# Altium footprint library sm_diode.PcbLib: 24 footprints (part 2 of 2)
Each footprint in its own frame and in the unit in brackets; x right, y up, seen from the top. Pads: shape width x height; smd on the part's side, far side on the other; paste and mask are expansions set on the pad; w line width, h text height; cw(c..) or ccw(c..) is an arc to the next point about the centre after c.
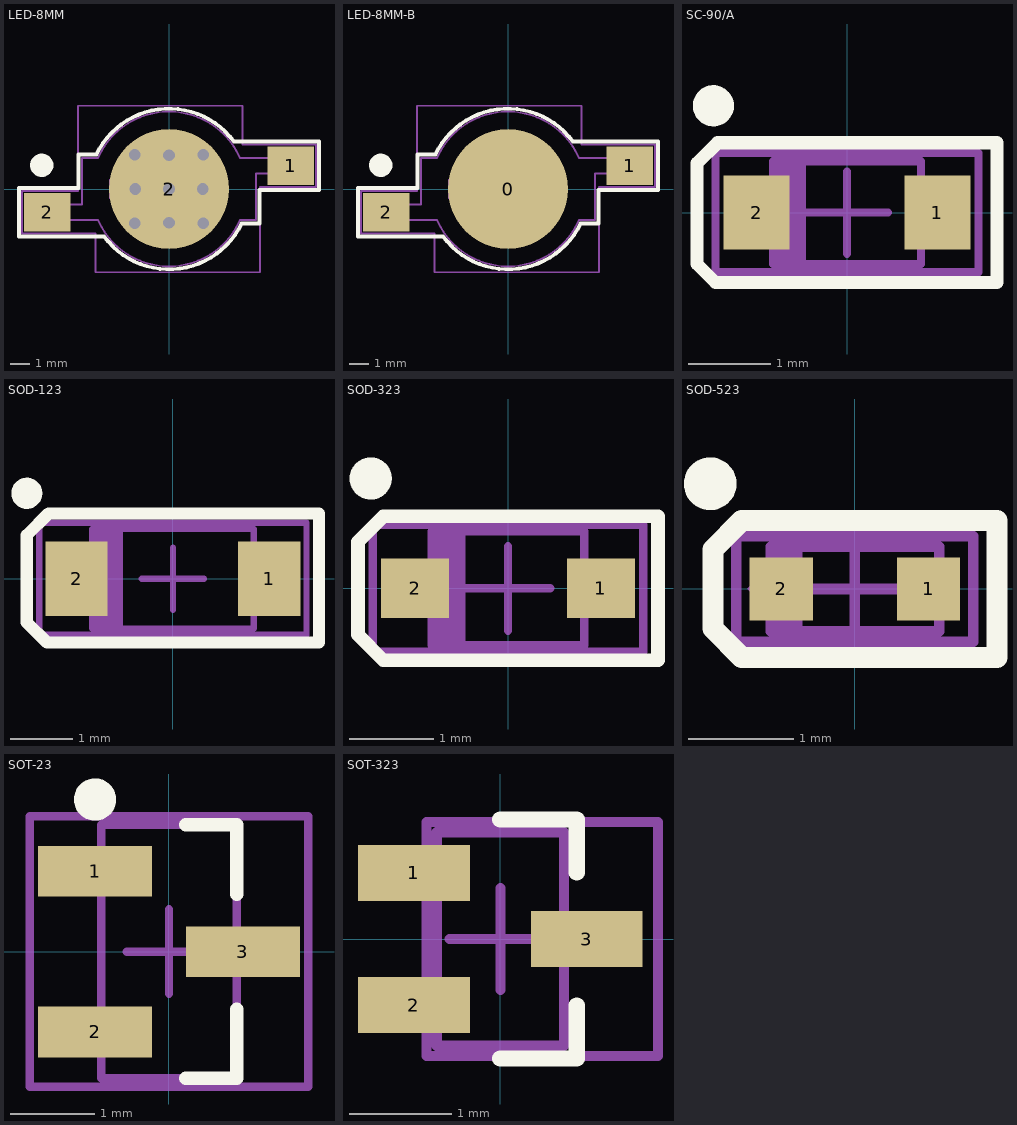
[diagram p1: the footprints below, top view; thin cyan lines are the x and y axes]

## LED-8MM [mm] "SMD LED ROUND 8MM"
height 5.3
pads (3):
  rect 2.4x2 smd: 1(6.3,1.2) 2(-6.3,-1.2)
  round 6.2 smd: 2(0,0)
via 0,0 diameter 1 hole 0.6
via 1.768,1.768 diameter 1 hole 0.6
via -1.768,1.768 diameter 1 hole 0.6
via -1.768,-1.768 diameter 1 hole 0.6
via 1.768,-1.768 diameter 1 hole 0.6
via 1.75,0 diameter 1 hole 0.6
via 0,-1.75 diameter 1 hole 0.6
via -1.75,0 diameter 1 hole 0.6
via 0,1.75 diameter 1 hole 0.6
Top Overlay:
  circle w0.6: c-6.575,1.225 r0.3
  lines w0.2: -4.675,1.775 -4.675,0.05 -7.75,0.05 -7.75,-2.45 -3.35,-2.45 ccw(c0,0) 3.751,-1.775 ; -4.65,1.775 -3.75,1.775 ; -3.751,1.775 cw(c0,0) 3.35,2.45 7.75,2.45 7.75,-0.05 4.675,-0.05 4.675,-1.775 ; 3.75,-1.775 4.65,-1.775
Mechanical 13:
  lines w0.1: -3.666,-1.6 -5.6,-1.6 -5.95,-1.95 -7.25,-1.95 -7.25,-0.45 -5.95,-0.45 -5.6,-0.8 -4.5,-0.8 -4.5,1.6 -3.666,1.6 ; -3.666,-1.599 ccw(c0,0) 3.666,-1.6 4.5,-1.6 4.5,0.8 5.6,0.8 5.95,0.45 7.25,0.45 7.25,1.95 5.95,1.95 5.6,1.6 3.666,1.6 ccw(c0,0) -3.666,1.599 ; -0.5,0 0.5,0 ; 0,-0.5 0,0.5
Mechanical 15:
  region: -2.4,-0.5 -3,-0.1 -3,-0.5 -3.1,-0.5 -3.1,0.5 -3,0.5 -3,0.1 -2.4,0.5
  lines w0.1: -7.6,-2.3 -7.6,-0.1 -4.7,-0.1 -4.7,4.3 3.8,4.3 3.8,2.3 7.6,2.3 7.6,0.1 4.7,0.1 4.7,-4.3 -3.8,-4.3 -3.8,-2.3 -7.6,-2.3
  text ".Designator" at -0.775,-0.275 h0.5
3D body "SW3dPS-LED Case Lambertian II.STEP": height 5.82, standoff 0.25, extent -7.179,-3.983 7.179,3.983

## LED-8MM-B [mm] "SMD LED ROUND 8MM SLUG INSULATED"
height 5.3
pads (3):
  round 6.2 smd: 0(0,0)
  rect 2.4x2 smd: 1(6.3,1.2) 2(-6.3,-1.2)
Top Overlay:
  circle w0.6: c-6.575,1.225 r0.3
  lines w0.2: -4.675,1.775 -4.675,0.05 -7.75,0.05 -7.75,-2.45 -3.35,-2.45 ccw(c0,0) 3.751,-1.775 ; -4.65,1.775 -3.75,1.775 ; -3.751,1.775 cw(c0,0) 3.35,2.45 7.75,2.45 7.75,-0.05 4.675,-0.05 4.675,-1.775 ; 3.75,-1.775 4.65,-1.775
Mechanical 13:
  lines w0.1: -3.666,-1.6 -5.6,-1.6 -5.95,-1.95 -7.25,-1.95 -7.25,-0.45 -5.95,-0.45 -5.6,-0.8 -4.5,-0.8 -4.5,1.6 -3.666,1.6 ; -3.666,-1.599 ccw(c0,0) 3.666,-1.6 4.5,-1.6 4.5,0.8 5.6,0.8 5.95,0.45 7.25,0.45 7.25,1.95 5.95,1.95 5.6,1.6 3.666,1.6 ccw(c0,0) -3.666,1.599 ; -0.5,0 0.5,0 ; 0,-0.5 0,0.5
Mechanical 15:
  region: -2.4,-0.5 -3,-0.1 -3,-0.5 -3.1,-0.5 -3.1,0.5 -3,0.5 -3,0.1 -2.4,0.5
  lines w0.1: -7.6,-2.3 -7.6,-0.1 -4.7,-0.1 -4.7,4.3 3.8,4.3 3.8,2.3 7.6,2.3 7.6,0.1 4.7,0.1 4.7,-4.3 -3.8,-4.3 -3.8,-2.3 -7.6,-2.3
  text ".Designator" at -0.775,-0.275 h0.5
3D body "SW3dPS-LED Case Lambertian II.STEP": height 5.82, standoff 0.25, extent -7.179,-3.983 7.179,3.983

## SC-90/A [mm] "Molded Diode, 2-Leads"
height 0.7
pads (2):
  rect 0.8x0.9 smd: 1(1.1,0) 2(-1.1,0)
Top Overlay:
  circle w0.25: c-1.625,1.3 r0.125
  lines w0.16: -1.825,-0.625 -1.6,-0.85 1.825,-0.85 1.825,0.85 -1.575,0.85 -1.825,0.6 -1.825,-0.625
Mechanical 13:
  rectangle: -0.9,-0.625 -0.5,0.625
  lines w0.1: -0.5,0 0.5,0 ; 0,-0.5 0,0.5 ; -0.9,-0.625 0.9,-0.625 0.9,0.625 -0.9,0.625 -0.9,-0.625
Mechanical 15:
  region: -1.125,-0.325 -1.45,0 -1.125,0.325
  lines w0.1: -1.6,-0.725 1.6,-0.725 1.6,0.725 -1.6,0.725 -1.6,-0.725
  text ".Designator" at -0.875,-0.175 h0.5
3D body "User Library-SOD-323.step": height 1.1, standoff 0, extent -1.3,-0.675 1.3,0.675

## SOD-123 [mm] "Molded Diode, 2-Leads"
height 0.7
pads (2):
  rect 1x1.2 smd: 1(1.55,0) 2(-1.55,0)
Top Overlay:
  circle w0.25: c-2.35,1.375 r0.125
  lines w0.2: -2.35,-0.7 -2.025,-1.025 2.35,-1.025 2.35,1.05 -2,1.05 -2.35,0.7 -2.35,-0.7
Mechanical 13:
  rectangle: -1.3,-0.8 -0.8,0.8
  lines w0.1: -0.5,0 0.5,0 ; 0,-0.5 0,0.5 ; -1.3,-0.8 1.3,-0.8 1.3,0.8 -1.3,0.8 -1.3,-0.8
Mechanical 15:
  region: -1.7,-0.325 -2.025,0 -1.7,0.325
  lines w0.1: -2.15,-0.9 2.15,-0.9 2.15,0.9 -2.15,0.9 -2.15,-0.9
  text ".Designator" at -0.875,-0.175 h0.5
3D body "SW3DPS-SOD123-DEFAULT.step": height 1.27, standoff 0, extent -1.85,-0.8 1.85,0.8

## SOD-323 [mm] "Molded Diode, 2-Leads"
height 0.7
pads (2):
  rect 0.8x0.7 smd: 1(1.1,0) 2(-1.1,0)
Top Overlay:
  circle w0.25: c-1.625,1.3 r0.125
  lines w0.16: -1.775,-0.55 -1.775,0.55 -1.475,0.85 1.775,0.85 1.775,-0.85 -1.475,-0.85 -1.775,-0.55
Mechanical 13:
  rectangle: -0.9,-0.675 -0.5,0.65
  lines w0.1: -0.5,0 0.5,0 ; 0,-0.5 0,0.5 ; -0.9,-0.675 -0.9,0.675 0.9,0.675 0.9,-0.675 -0.9,-0.675
Mechanical 15:
  region: -1.125,-0.325 -1.45,0 -1.125,0.325
  lines w0.1: -1.6,-0.75 -1.6,0.75 1.6,0.75 1.6,-0.75 -1.6,-0.75
  text ".Designator" at -0.875,-0.175 h0.5
3D body "User Library-SOD-323.step": height 1.1, standoff 0, extent -1.3,-0.675 1.3,0.675

## SOD-523 [mm] "Molded Diode, 2-Leads"
height 0.6
pads (2):
  rect 0.6x0.6 smd: 1(0.7,0) 2(-0.7,0)
Top Overlay:
  circle w0.25: c-1.375,1 r0.125
  lines w0.2: -1.35,-0.375 -1.075,-0.65 1.35,-0.65 1.35,0.65 -1.075,0.65 -1.35,0.375 -1.35,-0.375
Mechanical 13:
  rectangle: -0.8,-0.4 -0.5,0.4
  lines w0.1: -0.5,0 0.5,0 ; 0,-0.5 0,0.5 ; -0.8,-0.4 0.8,-0.4 0.8,0.4 -0.8,0.4 -0.8,-0.4
Mechanical 15:
  region: -0.7,-0.325 -1.025,0 -0.7,0.325
  lines w0.1: -1.125,-0.5 1.125,-0.5 1.125,0.5 -1.125,0.5 -1.125,-0.5
  text ".Designator" at -0.525,-0.25 h0.5
3D body "User Library-SOD-523F.STEP": height 0.7, standoff 0, extent -0.8,-0.399 0.8,0.399

## SOT-23 [mm] "SOT23, 3-Leads, Body 3.0x2.8mm (max), Pitch 0.95mm, IPC High Density"
height 1.4
pads (3):
  rect 1.35x0.6 smd: 1(-0.875,0.95) 2(-0.875,-0.95) 3(0.875,0)
Top Overlay:
  circle w0.25: c-0.875,1.8 r0.125
  lines w0.16: 0.2,-1.5 0.8,-1.5 0.8,-0.68 ; 0.2,1.5 0.8,1.5 0.8,0.68
Mechanical 13:
  lines w0.1: -0.5,0 0.5,0 ; 0,-0.5 0,0.5 ; -0.8,-1.5 -0.8,1.5 0.8,1.5 0.8,-1.5 -0.8,-1.5
Mechanical 15:
  lines w0.1: -1.65,-1.6 -1.65,1.6 1.65,1.6 1.65,-1.6 -1.65,-1.6
  text ".Designator" at -0.2,1.325 h0.5
3D body "SW3dPS-3-lead sot23-3.STEP": height 1, standoff -0.02, extent -1.231,-1.46 1.245,1.46

## SOT-323 [mm] "SC-70/SOT323"
height 1
pads (3):
  rect 1.1x0.55 smd: 1(-0.85,0.65) 2(-0.85,-0.65) 3(0.85,0)
Top Overlay:
  lines w0.16: 0,-1.175 0.75,-1.175 0.75,-0.655 ; 0,1.175 0.75,1.175 0.75,0.655
Mechanical 13:
  lines w0.1: -0.5,0 0.5,0 ; 0,-0.5 0,0.5 ; -0.625,-1.05 0.625,-1.05 0.625,1.05 -0.625,1.05 -0.625,-1.05
Mechanical 15:
  lines w0.1: -0.725,-1.15 1.55,-1.15 1.55,1.15 -0.725,1.15 -0.725,-1.15
  text ".Designator" at -0.225,0.975 h0.5
3D body "User Library-BC847BW.step": height 0.94, standoff -0.01, extent -1.05,-1 1.05,1